# EAGLE library part STM32-M-64-LQFP (library ELL-i-DigitalIC)
STM32F103 Medium Density 64pin LQFP Datasheet <http://www.st.com/st-web-ui/static/active/en/resource/technical/document/datasheet/CD00161566.pdf>
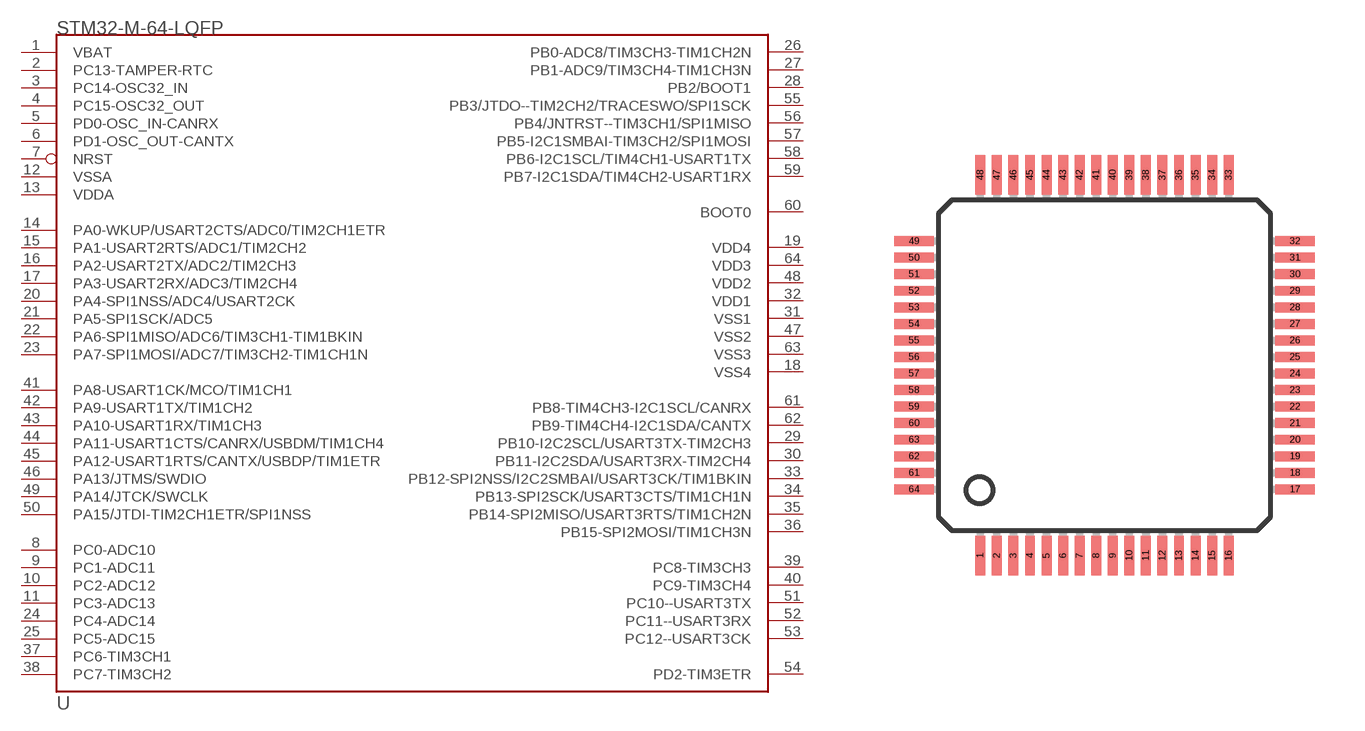
[diagram p11: symbol with the pads of LQFP64; footprint LQFP64]

Designator prefix U

## STM32-M-64-LQFP (PARTNO: STM32F103RB)  [LQFP64]
1  VBAT  sup
2  PC13-TAMPER-RTC
3  PC14-OSC32_IN
4  PC15-OSC32_OUT
5  PD0-OSC_IN-CANRX  in
6  PD1-OSC_OUT-CANTX  out
7  NRST
8  PC0-ADC10
9  PC1-ADC11
10  PC2-ADC12
11  PC3-ADC13
12  VSSA  sup
13  VDDA  sup
14  PA0-WKUP/USART2CTS/ADC0/TIM2CH1ETR
15  PA1-USART2RTS/ADC1/TIM2CH2
16  PA2-USART2TX/ADC2/TIM2CH3
17  PA3-USART2RX/ADC3/TIM2CH4
18  VSS4
19  VDD4
20  PA4-SPI1NSS/ADC4/USART2CK
21  PA5-SPI1SCK/ADC5
22  PA6-SPI1MISO/ADC6/TIM3CH1-TIM1BKIN
23  PA7-SPI1MOSI/ADC7/TIM3CH2-TIM1CH1N
24  PC4-ADC14
25  PC5-ADC15
26  PB0-ADC8/TIM3CH3-TIM1CH2N
27  PB1-ADC9/TIM3CH4-TIM1CH3N
28  PB2/BOOT1
29  PB10-I2C2SCL/USART3TX-TIM2CH3
30  PB11-I2C2SDA/USART3RX-TIM2CH4
31  VSS1  sup
32  VDD1  sup
33  PB12-SPI2NSS/I2C2SMBAI/USART3CK/TIM1BKIN
34  PB13-SPI2SCK/USART3CTS/TIM1CH1N
35  PB14-SPI2MISO/USART3RTS/TIM1CH2N
36  PB15-SPI2MOSI/TIM1CH3N
37  PC6-TIM3CH1
38  PC7-TIM3CH2
39  PC8-TIM3CH3
40  PC9-TIM3CH4
41  PA8-USART1CK/MCO/TIM1CH1
42  PA9-USART1TX/TIM1CH2
43  PA10-USART1RX/TIM1CH3
44  PA11-USART1CTS/CANRX/USBDM/TIM1CH4
45  PA12-USART1RTS/CANTX/USBDP/TIM1ETR
46  PA13/JTMS/SWDIO
47  VSS2  sup
48  VDD2  sup
49  PA14/JTCK/SWCLK
50  PA15/JTDI-TIM2CH1ETR/SPI1NSS
51  PC10--USART3TX
52  PC11--USART3RX
53  PC12--USART3CK
54  PD2-TIM3ETR
55  PB3/JTDO--TIM2CH2/TRACESWO/SPI1SCK
56  PB4/JNTRST--TIM3CH1/SPI1MISO
57  PB5-I2C1SMBAI-TIM3CH2/SPI1MOSI
58  PB6-I2C1SCL/TIM4CH1-USART1TX
59  PB7-I2C1SDA/TIM4CH2-USART1RX
60  BOOT0  in
61  PB8-TIM4CH3-I2C1SCL/CANRX
62  PB9-TIM4CH4-I2C1SDA/CANTX
63  VSS3  sup
64  VDD3  sup

## Footprint LQFP64 (pad centres in mm)
64 leads Low Profile Quad Flat Package (LQFP) 10x10 mm, 0.5 mm pitch. Wikipedia article on QFPs <https://en.wikipedia.org/wiki/LQFP>
smd 0.3 x 1.2: 1 -3.75,-5.75; 2 -3.25,-5.75; 3 -2.75,-5.75; 4 -2.25,-5.75; 5 -1.75,-5.75; 6 -1.25,-5.75; 7 -0.75,-5.75; 8 -0.25,-5.75; 9 0.25,-5.75; 10 0.75,-5.75; 11 1.25,-5.75; 12 1.75,-5.75; 13 2.25,-5.75; 14 2.75,-5.75; 15 3.25,-5.75; 16 3.75,-5.75; 33 3.75,5.75; 34 3.25,5.75; 35 2.75,5.75; 36 2.25,5.75; 37 1.75,5.75; 38 1.25,5.75; 39 0.75,5.75; 40 0.25,5.75; 41 -0.25,5.75; 42 -0.75,5.75; 43 -1.25,5.75; 44 -1.75,5.75; 45 -2.25,5.75; 46 -2.75,5.75; 47 -3.25,5.75; 48 -3.75,5.75
smd 1.2 x 0.3: 17 5.75,-3.75; 18 5.75,-3.25; 19 5.75,-2.75; 20 5.75,-2.25; 21 5.75,-1.75; 22 5.75,-1.25; 23 5.75,-0.75; 24 5.75,-0.25; 25 5.75,0.25; 26 5.75,0.75; 27 5.75,1.25; 28 5.75,1.75; 29 5.75,2.25; 30 5.75,2.75; 31 5.75,3.25; 32 5.75,3.75; 49 -5.75,3.75; 50 -5.75,3.25; 51 -5.75,2.75; 52 -5.75,2.25; 53 -5.75,1.75; 54 -5.75,1.25; 55 -5.75,0.75; 56 -5.75,0.25; 57 -5.75,-0.25; 58 -5.75,-0.75; 59 -5.75,-1.25; 60 -5.75,-1.75; 61 -5.75,-3.25; 62 -5.75,-2.75; 63 -5.75,-2.25; 64 -5.75,-3.75